# Altium footprint library TAIYO-YUDEN_NRS8030T4R7MJGJ.PcbLib: 1 footprints
Each footprint in its own frame and in the unit in brackets; x right, y up, seen from the top. Pads: shape width x height; smd on the part's side, far side on the other; paste and mask are expansions set on the pad; w line width, h text height; cw(c..) or ccw(c..) is an arc to the next point about the centre after c.
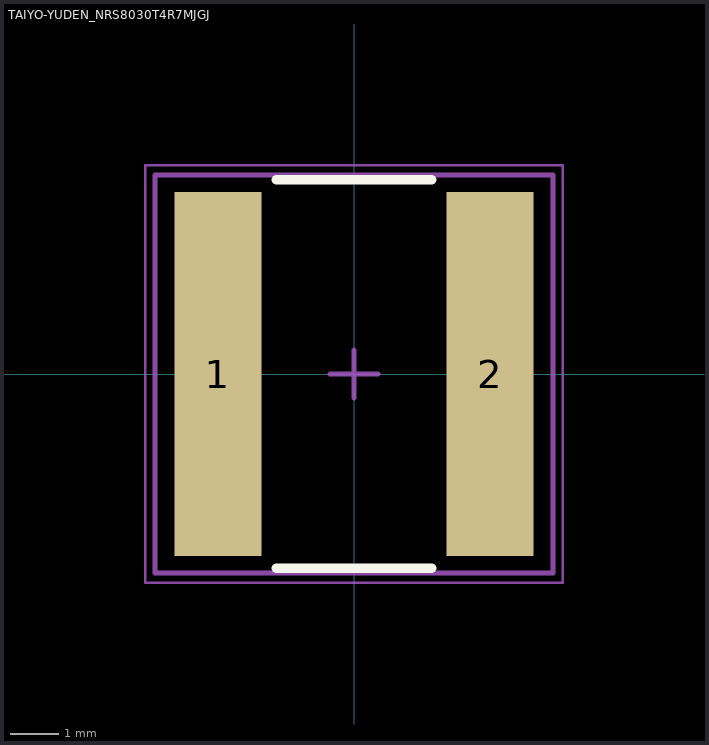
[diagram p0: the footprint, top view; thin cyan lines are the x and y axes]

## TAIYO-YUDEN_NRS8030T4R7MJGJ [mm]
height 3
pads (2):
  rect 1.8x7.5 smd: 1(-2.8,0) 2(2.8,0)
Top Overlay:
  lines w0.2: -1.6,-4 1.6,-4 ; -1.6,4 1.6,4
Top 3D Body:
  lines w0.1: -4.1,4.1 4.1,4.1 4.1,-4.1 ; -4.1,4.1 -4.1,-4.1 4.1,-4.1
Top Courtyard (Mech15):
  lines w0.05: -4.3,-4.3 -4.3,4.3 4.3,4.3 4.3,-4.3 -4.3,-4.3
  lines w0.1: -0.5,0 0.5,0 ; 0,-0.5 0,0.5
3D body: height 3, standoff 0, extent -4.1,-4.1 4.1,4.1